# Altium footprint library Terminial_Block_16_ 5_0mm.PcbLib: 1 footprints
Each footprint in its own frame and in the unit in brackets; x right, y up, seen from the top. Pads: shape width x height; smd on the part's side, far side on the other; paste and mask are expansions set on the pad; w line width, h text height; cw(c..) or ccw(c..) is an arc to the next point about the centre after c.
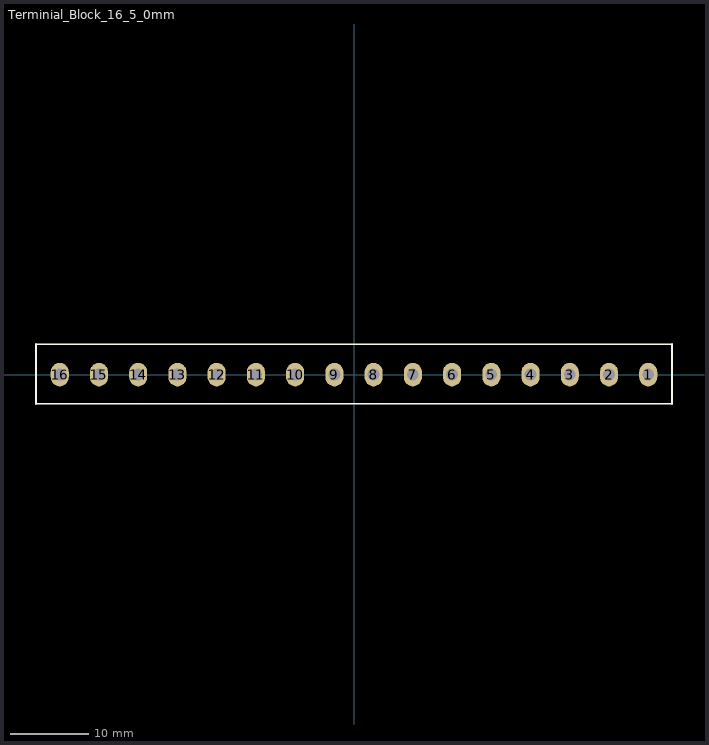
[diagram p0: the footprint, top view; thin cyan lines are the x and y axes]

## Terminial_Block_16_5_0mm [mm]
pads (16):
  oval 2.3x3 hole 1.5: 1(37.5,0) 2(32.5,0) 3(27.5,0) 4(22.5,0) 5(17.5,0) 6(12.5,0) 7(7.5,0) 8(2.5,0) 9(-2.5,0) 10(-7.5,0) 11(-12.5,0) 12(-17.5,0) 13(-22.5,0) 14(-27.5,0) 15(-32.5,0) 16(-37.5,0)
Top Overlay:
  lines w0.203: -40.55,-3.725 40.55,-3.725 ; -40.55,3.875 40.55,3.875
  lines w0.254: -40.55,-3.725 -40.55,3.875 ; 40.55,-3.725 40.55,3.875
3D body: height 10, standoff -4, extent -40.55,-3.75 40.55,3.85